# EAGLE library part 612026235221 (library Wire-to-Board (rev18a))
WR-BHD 2.54mm Male Angled Box Header High Temperature, 26 Pins=>Code : Con_WTB_BHD_2.54_Male_THT_RS_612026235221 <http://katalog.we-online.de/media/thumbs2/eican/thb_Con_WTB_BHD_2.54_Male_THT_RS_6120xx235221_pf2.jpg> Details see: http://katalog.we-online.de/en/em/612_0xx_235_221 Created 2014-06-05, Karrer Zheng 2014 (C) Würth Elektronik
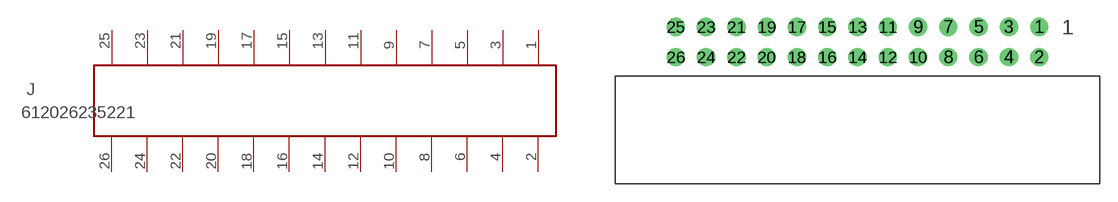
[diagram p173: symbol with the pads of 612026235221; footprint 612026235221]

Designator prefix J

## 612026235221  [612026235221]
1  26  pas
2  25  pas
3  24  pas
4  23  pas
5  22  pas
6  21  pas
7  20  pas
8  19  pas
9  18  pas
10  17  pas
11  16  pas
12  15  pas
13  14  pas
14  13  pas
15  12  pas
16  11  pas
17  10  pas
18  9  pas
19  8  pas
20  7  pas
21  6  pas
22  5  pas
23  4  pas
24  3  pas
25  2  pas
26  1  pas

## Footprint 612026235221 (pad centres in mm)
WR-BHD 2.54mm Male Angled Box Header High Temperature, 26 Pins
drill 1.02: 1 15.24,1.27; 2 15.24,-1.27; 3 12.7,1.27; 4 12.7,-1.27; 5 10.16,1.27; 6 10.16,-1.27; 7 7.62,1.27; 8 7.62,-1.27; 9 5.08,1.27; 10 5.08,-1.27; 11 2.54,1.27; 12 2.54,-1.27; 13 0,1.27; 14 0,-1.27; 15 -2.54,1.27; 16 -2.54,-1.27; 17 -5.08,1.27; 18 -5.08,-1.27; 19 -7.62,1.27; 20 -7.62,-1.27; 21 -10.16,1.27; 22 -10.16,-1.27; 23 -12.7,1.27; 24 -12.7,-1.27; 25 -15.24,1.27; 26 -15.24,-1.27